# Altium footprint library 遥控.PcbLib: 11 footprints
Each footprint in its own frame and in the unit in brackets; x right, y up, seen from the top. Pads: shape width x height; smd on the part's side, far side on the other; paste and mask are expansions set on the pad; w line width, h text height; cw(c..) or ccw(c..) is an arc to the next point about the centre after c.
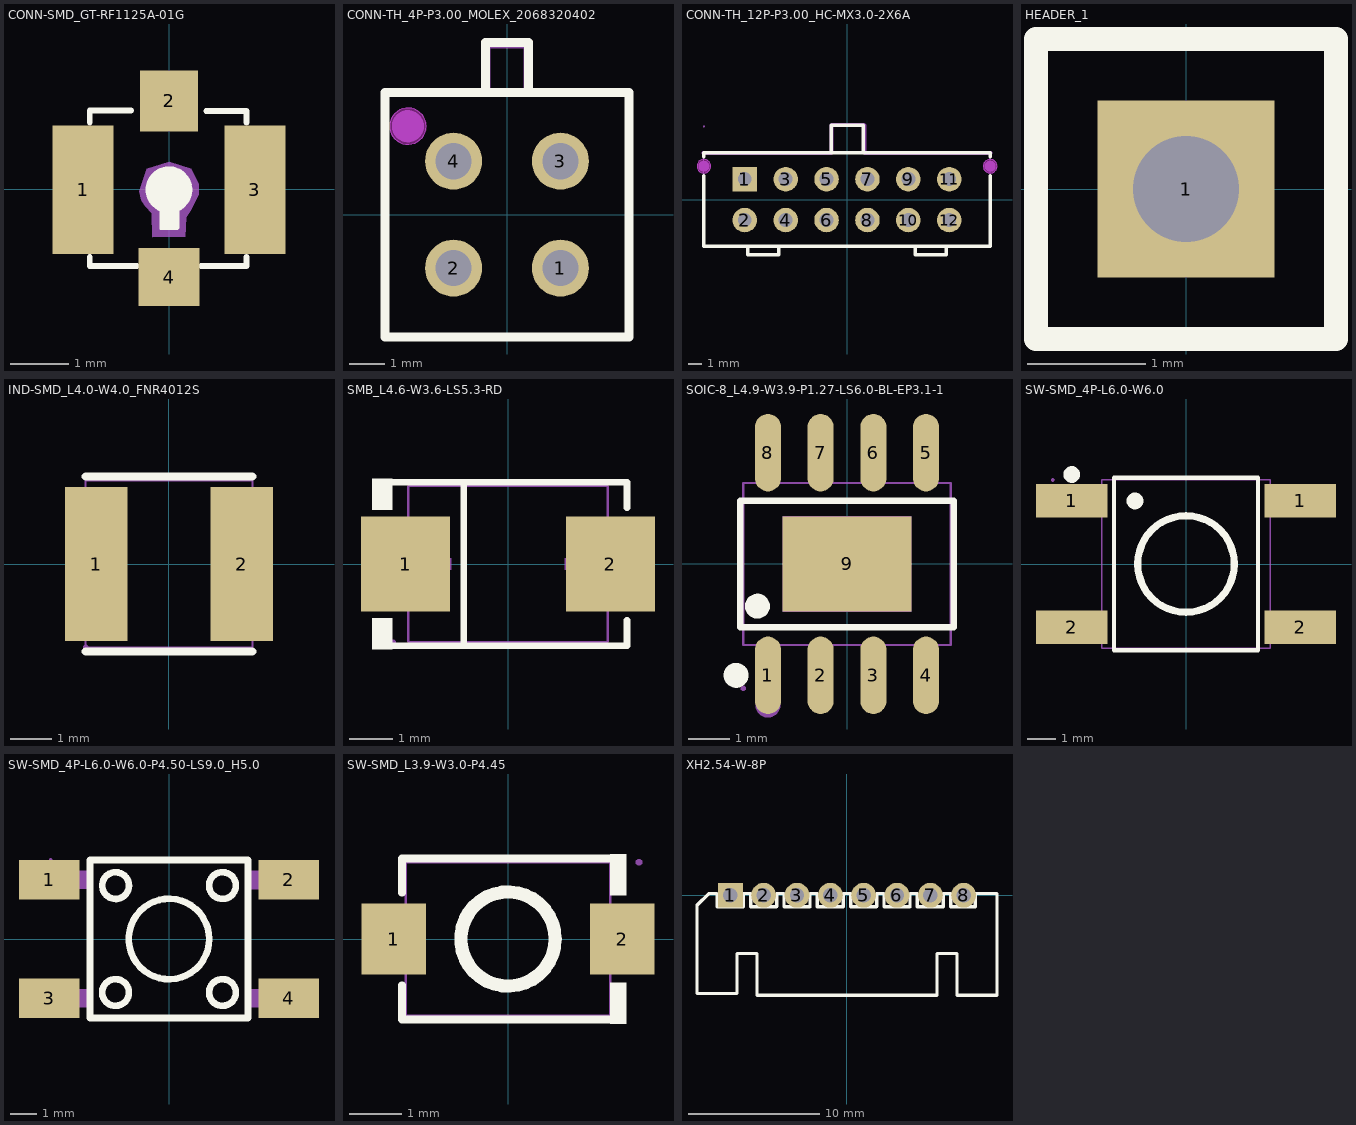
[diagram p0: the footprints below, top view; thin cyan lines are the x and y axes]

## CONN-SMD_GT-RF1125A-01G [mm]
pads (4):
  rect 1.05x2.2 smd paste+0 mask+0.05: 1(-1.475,-0.012) 3(1.475,-0.012)
  rect 1x1.05 smd paste+0 mask+0.05: 2(0,1.513)
  rect 1.05x1 smd paste+0 mask+0.05: 4(0,-1.513)
Top Overlay:
  circle w0.4: c0,-0.012 r0.2
  region: 0.18,-0.672 0.18,-0.355 0.17,-0.345 -0.16,-0.345 -0.16,-0.69 -0.15,-0.7 0.152,-0.7
  lines w0.1: -1.36,-1.167 -1.36,-1.323 -0.554,-1.323 ; -1.36,1.142 -1.36,1.347 -0.65,1.347 ; 0.554,-1.323 1.33,-1.323 1.33,-1.167 ; 0.64,1.337 1.33,1.337 1.33,1.142
Mechanical 6:
  region: 0.28,-0.822 0.3,-0.482 0.381,-0.355 0.508,-0.101 0.508,0.09 0.381,0.344 0,0.471 -0.381,0.344 -0.508,-0.037 -0.48,-0.192 -0.41,-0.292 -0.3,-0.418 -0.29,-0.832
Mechanical 15:
  region: 1.5,0.868 1.5,-0.893 1.12,-0.893 1.12,0.868
  region: -1.12,0.868 -1.12,-0.893 -1.5,-0.893 -1.5,0.868
  region: 0.28,1.207 -0.29,1.207 -0.29,1.508 0.28,1.508
  region: -0.29,-1.293 0.28,-1.293 0.28,-1.593 -0.29,-1.593

## CONN-TH_4P-P3.00_MOLEX_2068320402 [mm]
pads (4):
  round 1.6 hole 1.02 paste+0.051: 1(1.5,-1.5) 2(-1.5,-1.5) 3(1.5,1.5) 4(-1.5,1.5)
Top Overlay:
  lines w0.254: -0.6,3.429 -0.6,4.829 0.6,4.829 0.6,3.498 0.601,3.429 ; -3.429,-3.429 3.429,-3.429 3.429,3.429 -3.429,3.429 -3.429,-3.429
Keep-Out Layer:
  circle w0.003: c-2.78,2.48 r0.51
  region: -2.27,2.48 -2.27,2.378 -2.347,2.191 -2.491,2.048 -2.678,1.97 -2.881,1.97 -3.069,2.048 -3.212,2.191 -3.29,2.378 -3.29,2.48 -3.29,2.581 -3.212,2.769 -3.069,2.912 -2.881,2.99 -2.678,2.99 -2.491,2.912 -2.347,2.769 -2.27,2.581 -2.27,2.48
  region: -2.27,2.48 -2.27,2.378 -2.347,2.191 -2.491,2.048 -2.678,1.97 -2.881,1.97 -3.069,2.048 -3.212,2.191 -3.29,2.378 -3.29,2.48 -3.29,2.581 -3.212,2.769 -3.069,2.912 -2.881,2.99 -2.678,2.99 -2.491,2.912 -2.347,2.769 -2.27,2.581 -2.27,2.48
Mechanical 1:
  circle w0.003: c-2.78,2.48 r0.51
Mechanical 2:
  circle w0.45: c-2.78,2.48 r0.225
  region: -0.727,3.45 -0.727,4.8 -0.727,4.825 -0.708,4.872 -0.672,4.908 -0.625,4.927 -0.6,4.927 0.6,4.927 0.625,4.927 0.672,4.908 0.708,4.872 0.727,4.825 0.727,4.8 0.727,3.45 0.727,3.397 0.653,3.323 0.547,3.323 0.473,3.397 0.473,3.45 0.473,4.673 -0.473,4.673 -0.473,3.45 -0.473,3.397 -0.547,3.323 -0.653,3.323 -0.727,3.397 -0.727,3.45
Mechanical 6:
  lines w0.051: -3.425,-3.43 -3.425,3.43 3.425,3.43 3.425,-3.43 -3.425,-3.43
Mechanical 8:
  region: 3.485,-3.43 3.485,-3.455 3.45,-3.49 3.4,-3.49 3.365,-3.455 3.365,-3.43 3.365,-3.405 3.4,-3.37 3.45,-3.37 3.485,-3.405 3.485,-3.43
Mechanical 9:
  region: -1.82,1.82 -1.18,1.82 -1.18,1.18 -1.82,1.18
  region: -1.82,-1.18 -1.18,-1.18 -1.18,-1.82 -1.82,-1.82
  region: 1.18,-1.18 1.82,-1.18 1.82,-1.82 1.18,-1.82
  region: 1.18,1.82 1.82,1.82 1.82,1.18 1.18,1.18
3D body "2068320401.step": height 9.95, standoff -3.14, extent -3.435,-3.43 3.425,4.83

## CONN-TH_12P-P3.00_HC-MX3.0-2X6A [mm]
pads (12):
  rect 1.8x1.8 hole 1.02 paste+0 mask+0.05: 1(-7.5,1.5)
  round 1.8 hole 1.02 paste+0 mask+0.05: 2(-7.5,-1.5) 3(-4.5,1.5) 4(-4.5,-1.5) 5(-1.5,1.5) 6(-1.5,-1.5) 7(1.5,1.5) 8(1.5,-1.5) 9(4.5,1.5) 10(4.5,-1.5) 11(7.5,1.5) 12(7.5,-1.5)
Top Overlay:
  lines w0.254: -10.5,-3.43 10.5,-3.43 10.5,1.757 ; -10.5,-3.302 -10.5,1.757 ; -10.5,3.143 -10.5,3.43 10.5,3.43 10.5,3.143 ; -7.278,-3.43 -7.278,-4.03 -5,-4.03 -5,-3.43 ; -1.143,3.43 -1.143,5.461 1.198,5.461 1.198,3.43 ; 5,-3.43 5,-4.03 7.278,-4.03 7.278,-3.43
Keep-Out Layer:
  circle w0.003: c-10.5,2.45 r0.5
  circle w0.003: c10.5,2.45 r0.5
  region: -10,2.45 -10,2.351 -10.076,2.167 -10.217,2.026 -10.401,1.95 -10.599,1.95 -10.783,2.026 -10.924,2.167 -11,2.351 -11,2.45 -11,2.549 -10.924,2.733 -10.783,2.874 -10.599,2.95 -10.401,2.95 -10.217,2.874 -10.076,2.733 -10,2.549 -10,2.45
  region: -10,2.45 -10,2.351 -10.076,2.167 -10.217,2.026 -10.401,1.95 -10.599,1.95 -10.783,2.026 -10.924,2.167 -11,2.351 -11,2.45 -11,2.549 -10.924,2.733 -10.783,2.874 -10.599,2.95 -10.401,2.95 -10.217,2.874 -10.076,2.733 -10,2.549 -10,2.45
  region: 11,2.45 11,2.351 10.924,2.167 10.783,2.026 10.599,1.95 10.401,1.95 10.217,2.026 10.076,2.167 10,2.351 10,2.45 10,2.549 10.076,2.733 10.217,2.874 10.401,2.95 10.599,2.95 10.783,2.874 10.924,2.733 11,2.549 11,2.45
  region: 11,2.45 11,2.351 10.924,2.167 10.783,2.026 10.599,1.95 10.401,1.95 10.217,2.026 10.076,2.167 10,2.351 10,2.45 10,2.549 10.076,2.733 10.217,2.874 10.401,2.95 10.599,2.95 10.783,2.874 10.924,2.733 11,2.549 11,2.45
Mechanical 1:
  circle w0.003: c-10.5,2.45 r0.5
  circle w0.003: c10.5,2.45 r0.5
Mechanical 2:
  circle w0.4: c-10.5,2.45 r0.2
  circle w0.4: c10.5,2.45 r0.2
  region: -10.541,3.556 -1.27,3.556 -1.27,5.461 -1.27,5.486 -1.251,5.533 -1.215,5.569 -1.168,5.588 -1.143,5.588 1.27,5.588 1.295,5.588 1.342,5.569 1.378,5.533 1.397,5.486 1.397,5.461 1.397,3.556 10.541,3.556 10.594,3.556 10.668,3.482 10.668,3.376 10.594,3.302 10.541,3.302 1.27,3.302 1.245,3.302 1.198,3.321 1.162,3.357 1.143,3.404 1.143,3.429 1.143,5.334 -1.016,5.334 -1.016,3.429 -1.016,3.404 -1.035,3.357 -1.071,3.321 -1.118,3.302 -1.143,3.302 -10.541,3.302 -10.594,3.302 -10.668,3.376 -10.668,3.482 -10.594,3.556 -10.541,3.556
Mechanical 6:
  lines w0.051: -10.5,-3.425 -10.5,3.425 -1.2,3.425 -1.2,5.375 1.2,5.375 1.2,3.425 10.5,3.425 10.5,-3.425 -10.5,-3.425
Mechanical 8:
  region: -10.44,5.375 -10.44,5.35 -10.475,5.315 -10.525,5.315 -10.56,5.35 -10.56,5.375 -10.56,5.4 -10.525,5.435 -10.475,5.435 -10.44,5.4 -10.44,5.375
Mechanical 9:
  region: 7.18,-1.18 7.82,-1.18 7.82,-1.82 7.18,-1.82
  region: 7.18,1.82 7.82,1.82 7.82,1.18 7.18,1.18
  region: 4.18,-1.18 4.82,-1.18 4.82,-1.82 4.18,-1.82
  region: 4.18,1.82 4.82,1.82 4.82,1.18 4.18,1.18
  region: 1.18,-1.18 1.82,-1.18 1.82,-1.82 1.18,-1.82
  region: 1.18,1.82 1.82,1.82 1.82,1.18 1.18,1.18
  region: -1.82,-1.18 -1.18,-1.18 -1.18,-1.82 -1.82,-1.82
  region: -1.82,1.82 -1.18,1.82 -1.18,1.18 -1.82,1.18
  region: -4.82,-1.18 -4.18,-1.18 -4.18,-1.82 -4.82,-1.82
  region: -4.82,1.82 -4.18,1.82 -4.18,1.18 -4.82,1.18
  region: -7.82,-1.18 -7.18,-1.18 -7.18,-1.82 -7.82,-1.82
  region: -7.82,1.82 -7.18,1.82 -7.18,1.18 -7.82,1.18
3D body "hc-mx3.0-2_6a.step": height 9.9, standoff -3.3, extent -10.373,-3.892 10.627,4.908

## HEADER_1 [mm] "2.54排针-3x1"
pads (1):
  rect 1.5x1.5 hole 0.9: 1(0,0)
Top Overlay:
  lines w0.2: -1.27,-1.27 1.27,-1.27 1.27,1.27 -1.27,1.27 -1.27,-1.27

## IND-SMD_L4.0-W4.0_FNR4012S [mm]
pads (2):
  rect 1.5x3.7 smd: 1(-1.75,0) 2(1.75,0)
Top Overlay:
  lines w0.203: -2,-2.1 2,-2.1 ; -2,2.1 2,2.1
Mechanical 15:
  region: -2,-1.75 -2,1.75 -1.05,1.75 -1.05,-1.75
  region: 2,1.75 2,-1.75 1.05,-1.75 1.05,1.75
  region: -1.94,-2 -1.94,-2.025 -1.975,-2.06 -2.025,-2.06 -2.06,-2.025 -2.06,-2 -2.06,-1.975 -2.025,-1.94 -1.975,-1.94 -1.94,-1.975
  lines w0.051: -2,-2 2,-2 2,2 -2,2 -2,-2

## SMB_L4.6-W3.6-LS5.3-RD [mm]
pads (2):
  rect 2.047x2.192 smd: 1(-2.361,0) 2(2.361,0)
Top Overlay:
  region: -2.668,1.962 -2.668,1.249 -3.125,1.249 -3.125,1.962
  region: -2.668,-1.962 -2.668,-1.249 -3.125,-1.249 -3.125,-1.962
  lines w0.152: -2.744,-1.886 2.744,-1.886 2.744,-1.299 ; -2.744,1.886 2.744,1.886 2.744,1.299 ; -1.016,-1.886 -1.016,1.886
Mechanical 6:
  region: -2.396,-0.136 -2.396,0.136 -1.31,0.136 -1.31,-0.136
  region: 2.396,-0.136 2.396,0.136 1.31,0.136 1.31,-0.136
  region: 1.989,-0.905 1.989,0.905 1.717,0.905 1.717,-0.905
Mechanical 15:
  region: -2.59,-1.8 -2.59,-1.825 -2.625,-1.86 -2.674,-1.86 -2.709,-1.825 -2.709,-1.8 -2.709,-1.775 -2.674,-1.74 -2.625,-1.74 -2.59,-1.775
  region: -2.649,-1.015 -2.649,1.015 -1.509,1.015 -1.509,-1.015
  region: 2.649,-1.015 2.649,1.015 1.509,1.015 1.509,-1.015
  lines w0.051: -2.3,-1.8 -2.3,1.8 2.3,1.8 2.3,-1.8 -2.3,-1.8

## SOIC-8_L4.9-W3.9-P1.27-LS6.0-BL-EP3.1-1 [mm]
pads (9):
  oval 0.63x1.865 smd: 1(-1.905,-2.683) 2(-0.635,-2.683) 3(0.635,-2.683) 4(1.905,-2.683) 5(1.905,2.682) 6(0.635,2.682) 7(-0.635,2.682) 8(-1.905,2.682)
  rect 3.1x2.3 smd paste+0 mask+0.05: 9(0,0)
Top Overlay:
  circle w0.3: c-2.159,-1.016 r0.15
  circle w0.3: c-2.672,-2.683 r0.15
  lines w0.152: -2.576,-1.521 2.576,-1.521 2.576,1.521 -2.576,1.521 -2.576,-1.521
Mechanical 6:
  circle w0.3: c-1.905,-3.4 r0.15
Mechanical 15:
  region: -1.55,1.15 1.55,1.15 1.55,-1.15 -1.55,-1.15
  region: 1.705,1.94 1.705,2.175 2.105,2.175 2.105,1.94
  region: 1.705,2.165 1.705,3 2.105,3 2.105,2.165
  region: 0.435,1.94 0.435,2.175 0.835,2.175 0.835,1.94
  region: 0.435,2.165 0.435,3 0.835,3 0.835,2.165
  region: -0.835,1.94 -0.835,2.175 -0.435,2.175 -0.435,1.94
  region: -0.835,2.165 -0.835,3 -0.435,3 -0.435,2.165
  region: -2.105,1.94 -2.105,2.175 -1.705,2.175 -1.705,1.94
  region: -2.105,2.165 -2.105,3 -1.705,3 -1.705,2.165
  region: 1.705,-2.175 1.705,-1.94 2.105,-1.94 2.105,-2.175
  region: 1.705,-3 1.705,-2.165 2.105,-2.165 2.105,-3
  region: 0.435,-2.175 0.435,-1.94 0.835,-1.94 0.835,-2.175
  region: 0.435,-3 0.435,-2.165 0.835,-2.165 0.835,-3
  region: -0.835,-2.175 -0.835,-1.94 -0.435,-1.94 -0.435,-2.175
  region: -0.835,-3 -0.835,-2.165 -0.435,-2.165 -0.435,-3
  region: -2.105,-2.175 -2.105,-1.94 -1.705,-1.94 -1.705,-2.175
  region: -2.105,-3 -2.105,-2.165 -1.705,-2.165 -1.705,-3
  region: -2.44,-3 -2.44,-3.025 -2.475,-3.06 -2.525,-3.06 -2.56,-3.025 -2.56,-3 -2.56,-2.975 -2.525,-2.94 -2.475,-2.94 -2.44,-2.975
  lines w0.051: -2.5,-1.95 2.5,-1.95 2.5,1.95 -2.5,1.95 -2.5,-1.95

## SW-SMD_4P-L6.0-W6.0 [mm]
pads (4):
  rect 2.55x1.2 smd: 1(-4.075,2.25) 1(4.075,2.25) 2(-4.075,-2.25) 2(4.075,-2.25)
Top Overlay:
  circle w0.254: c0,0 r1.721
  circle w0.3: c-4.075,3.192 r0.15
  circle w0.3: c-1.819,2.25 r0.15
  lines w0.152: -2.571,-3.076 -2.571,3.076 2.571,3.076 2.571,-3.076 -2.571,-3.076
Mechanical 15:
  region: 3.76,-1.9 2.99,-1.9 2.99,-2.6 3.76,-2.6
  region: 4.75,-1.9 3.75,-1.9 3.75,-2.6 4.75,-2.6
  region: 3.76,2.6 2.99,2.6 2.99,1.9 3.76,1.9
  region: 4.75,2.6 3.75,2.6 3.75,1.9 4.75,1.9
  region: -3.76,-1.9 -2.99,-1.9 -2.99,-2.6 -3.76,-2.6
  region: -4.75,-1.9 -3.75,-1.9 -3.75,-2.6 -4.75,-2.6
  region: -3.76,2.6 -2.99,2.6 -2.99,1.9 -3.76,1.9
  region: -4.75,2.6 -3.75,2.6 -3.75,1.9 -4.75,1.9
  region: -4.69,3 -4.691,3.024 -4.726,3.057 -4.774,3.057 -4.809,3.024 -4.81,3 -4.809,2.976 -4.774,2.942 -4.726,2.942 -4.691,2.976 -4.69,3
  lines w0.051: -3,-3 -3,3 3,3 3,-3 -3,-3
3D body "kh-6x6x10h-smt-fs-d.step": height 7.42, standoff 0.02, extent -4.75,-3 4.75,3

## SW-SMD_4P-L6.0-W6.0-P4.50-LS9.0_H5.0 [mm]
pads (4):
  rect 2.3x1.5 smd: 1(-4.55,2.25) 2(4.55,2.25) 3(-4.55,-2.25) 4(4.55,-2.25)
Top Overlay:
  circle w0.254: c0,0 r1.529
  circle w0.254: c2.032,-2.032 r0.508
  circle w0.254: c-2.032,-2.032 r0.508
  circle w0.254: c2.032,2.032 r0.508
  circle w0.254: c-2.03,2.03 r0.508
  lines w0.254: -3,-3 3,-3 3,3 -3,3 -3,-3
Mechanical 15:
  region: -4.44,3 -4.44,2.975 -4.475,2.94 -4.525,2.94 -4.56,2.975 -4.56,3 -4.56,3.025 -4.525,3.06 -4.475,3.06 -4.44,3.025
  region: -3.51,1.9 -3.51,2.6 -2.99,2.6 -2.99,1.9
  region: -4.5,1.9 -4.5,2.6 -3.5,2.6 -3.5,1.9
  region: -3.51,-2.6 -3.51,-1.9 -2.99,-1.9 -2.99,-2.6
  region: -4.5,-2.6 -4.5,-1.9 -3.5,-1.9 -3.5,-2.6
  region: 2.99,-2.6 2.99,-1.9 3.51,-1.9 3.51,-2.6
  region: 3.5,-2.6 3.5,-1.9 4.5,-1.9 4.5,-2.6
  region: 2.99,1.9 2.99,2.6 3.51,2.6 3.51,1.9
  region: 3.5,1.9 3.5,2.6 4.5,2.6 4.5,1.9
  lines w0.051: -3,-3 3,-3 3,3 -3,3 -3,-3

## SW-SMD_L3.9-W3.0-P4.45 [mm]
pads (2):
  rect 1.23x1.36 smd: 1(-2.185,0) 2(2.185,0)
Top Overlay:
  circle w0.254: c0,0 r0.9
  region: 1.95,-1.617 1.95,-0.832 2.255,-0.832 2.255,-1.617
  region: 1.95,1.617 1.95,0.832 2.255,0.832 2.255,1.617
  lines w0.152: -2.026,-0.883 -2.026,-1.541 2.026,-1.541 ; -2.026,0.883 -2.026,1.541 2.026,1.541
Mechanical 15:
  region: 2.56,1.465 2.56,1.44 2.525,1.405 2.475,1.405 2.44,1.44 2.44,1.465 2.44,1.49 2.475,1.525 2.525,1.525 2.56,1.49
  region: 2.5,0.65 2.5,-0.65 1.6,-0.65 1.6,0.65
  region: -2.5,0.65 -2.5,-0.65 -1.6,-0.65 -1.6,0.65
  lines w0.051: -1.95,-1.465 1.95,-1.465 1.95,1.465 -1.95,1.465 -1.95,-1.465

## XH2.54-W-8P [mm] "接插件，8P"
height 7.01
pads (8):
  rect 1.9x1.9 hole 1.1: 1(-8.89,0)
  round 1.9 hole 1.1: 2(-6.35,0) 3(-3.81,0) 4(-1.27,0) 5(1.27,0) 6(3.81,0) 7(6.35,0) 8(8.89,0)
Top Overlay:
  lines w0.254: -7.352,0.127 -7.898,0.127 -7.898,-0.889 -9.906,-0.889 -9.906,0.127 -10.541,0.127 -11.43,-0.762 -11.43,-7.485 -8.382,-7.485 -8.382,-4.445 -6.858,-4.445 -6.858,-7.62 6.858,-7.62 6.858,-4.445 8.382,-4.445 8.382,-7.62 11.43,-7.62 11.43,0.127 9.779,0.127 9.779,-0.762 9.779,-0.875 7.902,-0.875 7.902,0.127 ; -7.338,0.127 -7.338,-0.875 -5.37,-0.875 -5.358,-0.863 -5.358,0.127 -4.812,0.127 ; -4.798,0.127 -4.798,-0.875 -2.83,-0.875 -2.818,-0.863 -2.818,0.127 -2.272,0.127 ; -2.258,0.127 -2.258,-0.875 -0.29,-0.875 -0.278,-0.863 -0.278,0.127 0.268,0.127 ; 0.282,0.127 0.282,-0.875 2.25,-0.875 2.262,-0.863 2.262,0.127 2.808,0.127 ; 2.822,0.127 2.822,-0.875 4.79,-0.875 4.802,-0.863 4.802,0.127 5.348,0.127 ; 5.362,0.127 5.362,-0.875 7.33,-0.875 7.342,-0.863 7.342,0.127 7.888,0.127
3D body "XH2_54-8P_H.STEP": height 2.89, standoff -6.21, extent -11.395,-7.446 11.385,0.254